# Altium footprint library 智能车专用库.PcbLib: 47 footprints (part 2 of 3)
Each footprint in its own frame and in the unit in brackets; x right, y up, seen from the top. Pads: shape width x height; smd on the part's side, far side on the other; paste and mask are expansions set on the pad; w line width, h text height; cw(c..) or ccw(c..) is an arc to the next point about the centre after c.
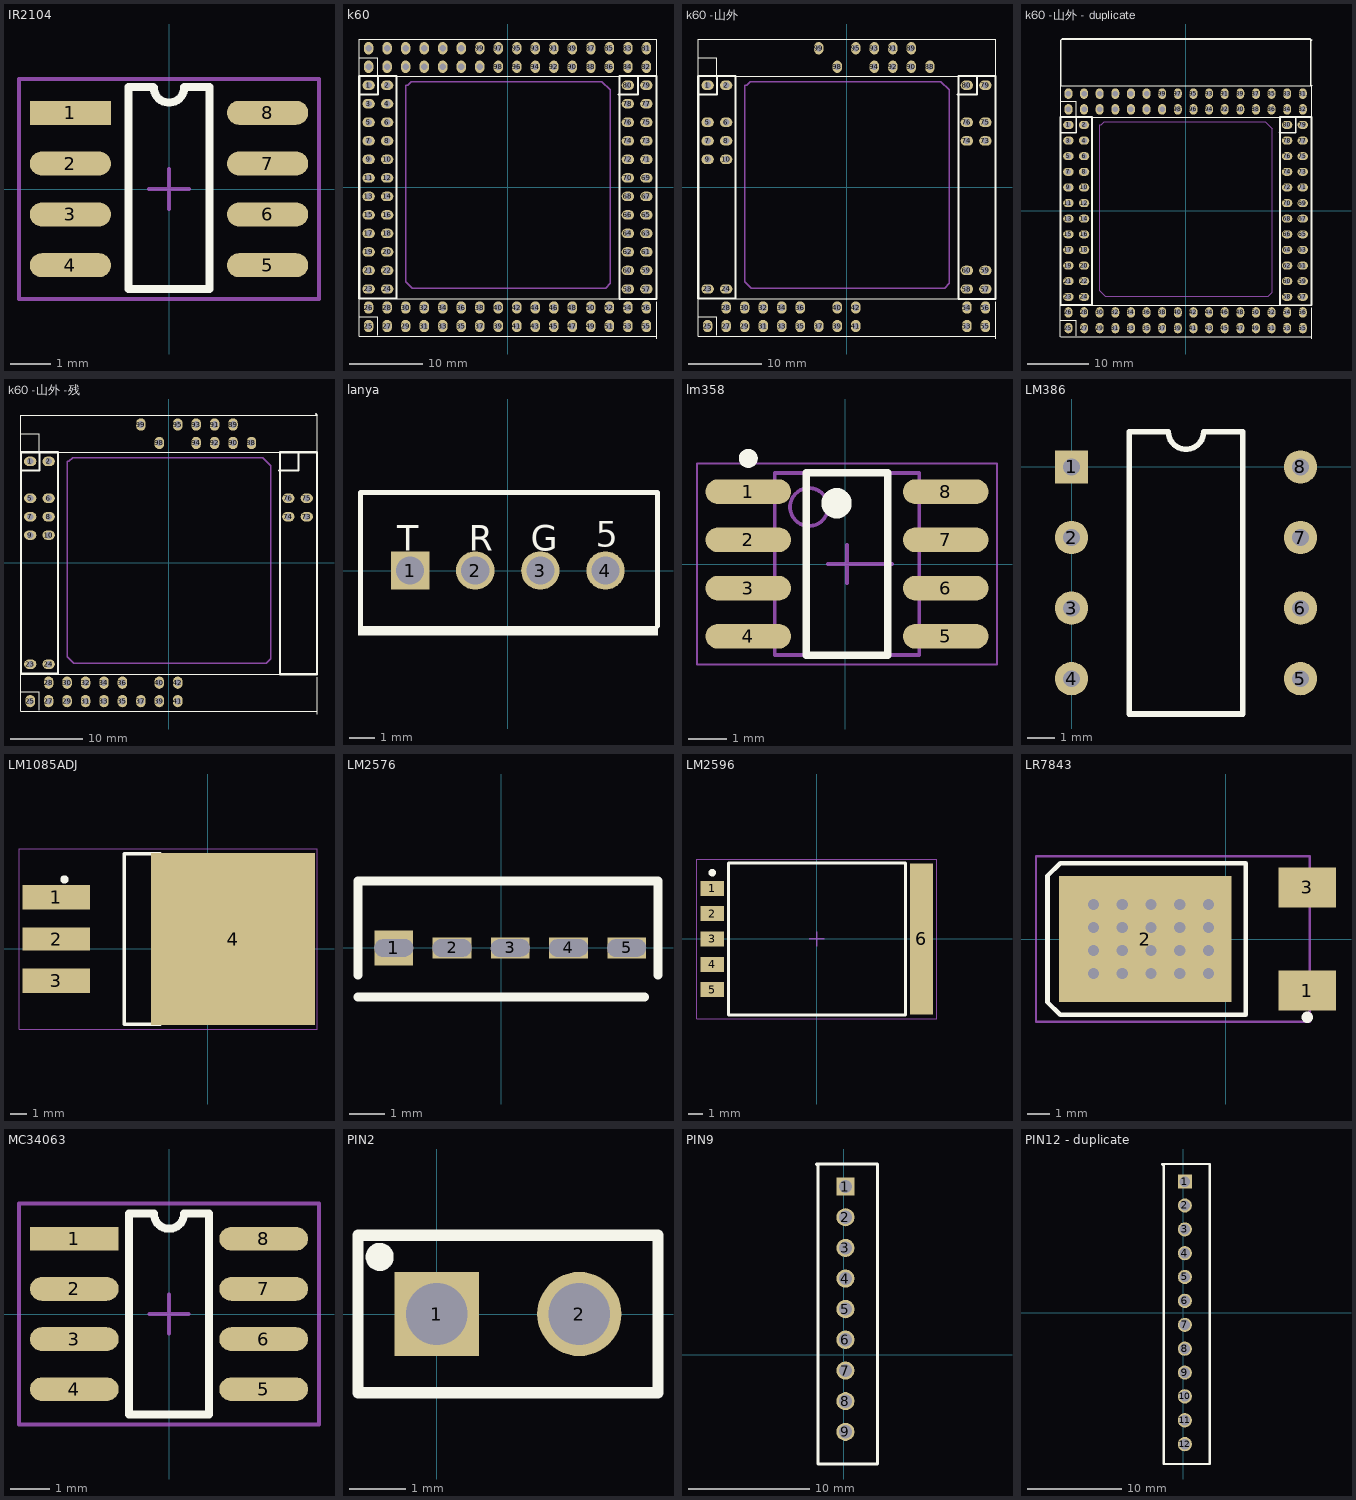
[diagram p1: the footprints below, top view; thin cyan lines are the x and y axes]

## IR2104 [mil]
pads (8):
  rect 80x23.62 smd: 1(-97,75)
  oval 80x23.62 smd: 2(-97,25) 3(-97,-25) 4(-97,-75) 5(97,-75) 6(97,-25) 7(97,25) 8(97,75)
Top Overlay:
  lines w7.87: -40,100.39 -40,-98.43 40,-98.43 40,100.39
  lines w8: -40,100.39 -15.55,100.39 ; -15,100 ccw(c0,100) 15,100 ; 15,100.39 40,100.39
Mechanical 15:
  lines w3.94: -19.68,0 19.68,0 ; 0,-19.68 0,19.68 ; -147.64,-108.27 147.64,-108.27 147.64,108.27 -147.64,108.27 -147.64,-108.27

## k60 [mm]
pads (112):
  oval 1.7x1.3 / inner round 1.524 / far side round 1.524 hole 0.9: 1(-19.05,13.97) 2(-16.51,13.97) 3(-19.05,11.43) 4(-16.51,11.43) 5(-19.05,8.89) 6(-16.51,8.89) 7(-19.05,6.35) 8(-16.51,6.35) 9(-19.05,3.81) 10(-16.51,3.81) 11(-19.05,1.27) 12(-16.51,1.27) 13(-19.05,-1.27) 14(-16.51,-1.27) 15(-19.05,-3.81) 16(-16.51,-3.81) 17(-19.05,-6.35) 18(-16.51,-6.35) 19(-19.05,-8.89) 20(-16.51,-8.89) 21(-19.05,-11.43) 22(-16.51,-11.43) 23(-19.05,-13.97) 24(-16.51,-13.97) 57(19.05,-13.97) 58(16.51,-13.97) 59(19.05,-11.43) 60(16.51,-11.43) 61(19.05,-8.89) 62(16.51,-8.89) 63(19.05,-6.35) 64(16.51,-6.35) 65(19.05,-3.81) 66(16.51,-3.81) 67(19.05,-1.27) 68(16.51,-1.27) 69(19.05,1.27) 70(16.51,1.27) 71(19.05,3.81) 72(16.51,3.81) 73(19.05,6.35) 74(16.51,6.35) 75(19.05,8.89) 76(16.51,8.89) 77(19.05,11.43) 78(16.51,11.43) 79(19.05,13.97) 80(16.51,13.97)
  oval 1.3x1.7 / inner round 1.524 / far side round 1.524 hole 0.9: 25(-19.05,-19.05) 26(-19.05,-16.51) 27(-16.51,-19.05) 28(-16.51,-16.51) 29(-13.97,-19.05) 30(-13.97,-16.51) 31(-11.43,-19.05) 32(-11.43,-16.51) 33(-8.89,-19.05) 34(-8.89,-16.51) 35(-6.35,-19.05) 36(-6.35,-16.51) 37(-3.81,-19.05) 38(-3.81,-16.51) 39(-1.27,-19.05) 40(-1.27,-16.51) 41(1.27,-19.05) 42(1.27,-16.51) 43(3.81,-19.05) 44(3.81,-16.51) 45(6.35,-19.05) 46(6.35,-16.51) 47(8.89,-19.05) 48(8.89,-16.51) 49(11.43,-19.05) 50(11.43,-16.51) 51(13.97,-19.05) 52(13.97,-16.51) 53(16.51,-19.05) 54(16.51,-16.51) 55(19.05,-19.05) 56(19.05,-16.51) 81(19.05,19.05) 82(19.05,16.51) 83(16.51,19.05) 84(16.51,16.51) 85(13.97,19.05) 86(13.97,16.51) 87(11.43,19.05) 88(11.43,16.51) 89(8.89,19.05) 90(8.89,16.51) 91(6.35,19.05) 92(6.35,16.51) 93(3.81,19.05) 94(3.81,16.51) 95(1.27,19.05) 96(1.27,16.51) 97(-1.27,19.05) 98(-1.27,16.51) 99(-3.81,19.05) 100(-3.81,16.51) 101(-6.35,19.05) 102(-6.35,16.51) 103(-8.89,19.05) 104(-8.89,16.51) 105(-11.43,19.05) 106(-11.43,16.51) 107(-13.97,19.05) 108(-13.97,16.51) 109(-16.51,19.05) 110(-16.51,16.51) 111(-19.05,19.05) 112(-19.05,16.51)
Top Overlay:
  lines w0.15: -20.362,-20.478 -20.362,-15.398 ; -20.323,-20.427 20.444,-20.427 ; -20.32,-17.78 -17.78,-17.78 -17.78,-20.32 ; -20.32,-15.336 20.447,-15.336 ; -20.32,17.78 -17.78,17.78 -17.78,15.24 ; 20.447,-16.211 20.498,-16.211 ; 20.447,-15.852 20.498,-15.852 ; 20.498,-20.828 20.498,-15.748 ; -20.32,15.24 20.447,15.24 20.498,15.24 20.498,20.32 20.447,20.32 -20.32,20.32 -20.32,15.24
  lines w0.305: -20.32,-15.271 -15.24,-15.271 ; -20.32,-15.24 -20.32,15.24 -15.24,15.24 -15.24,-15.24 ; -20.32,12.7 -17.78,12.7 -17.78,15.24 ; 15.24,12.7 17.78,12.7 ; 15.367,-15.344 20.447,-15.344 ; 15.367,-15.24 15.367,15.24 20.447,15.24 20.447,-15.24 ; 17.907,12.7 17.907,15.24
Mechanical 15:
  lines w0.2: -13.97,13.97 -13.716,13.97 ; -13.97,13.97 -13.716,13.97 ; -13.97,13.97 -13.97,-12.954 -13.081,-13.843 13.462,-13.843 14.097,-13.208 14.097,13.335 12.954,14.478 -13.208,14.478 -13.716,13.97

## k60 -山外 [mm]
pads (50):
  oval 1.7x1.3 / inner round 1.524 / far side round 1.524 hole 0.9: 1(-19.05,13.97) 2(-16.51,13.97) 5(-19.05,8.89) 6(-16.51,8.89) 7(-19.05,6.35) 8(-16.51,6.35) 9(-19.05,3.81) 10(-16.51,3.81) 23(-19.05,-13.97) 24(-16.51,-13.97) 57(19.05,-13.97) 58(16.51,-13.97) 59(19.05,-11.43) 60(16.51,-11.43) 73(19.05,6.35) 74(16.51,6.35) 75(19.05,8.89) 76(16.51,8.89) 79(19.05,13.97) 80(16.51,13.97)
  oval 1.3x1.7 / inner round 1.524 / far side round 1.524 hole 0.9: 25(-19.05,-19.05) 27(-16.51,-19.05) 28(-16.51,-16.51) 29(-13.97,-19.05) 30(-13.97,-16.51) 31(-11.43,-19.05) 32(-11.43,-16.51) 33(-8.89,-19.05) 34(-8.89,-16.51) 35(-6.35,-19.05) 36(-6.35,-16.51) 37(-3.81,-19.05) 39(-1.27,-19.05) 40(-1.27,-16.51) 41(1.27,-19.05) 42(1.27,-16.51) 53(16.51,-19.05) 54(16.51,-16.51) 55(19.05,-19.05) 56(19.05,-16.51) 88(11.43,16.51) 89(8.89,19.05) 90(8.89,16.51) 91(6.35,19.05) 92(6.35,16.51) 93(3.81,19.05) 94(3.81,16.51) 95(1.27,19.05) 98(-1.27,16.51) 99(-3.81,19.05)
Top Overlay:
  lines w0.15: -20.362,-20.478 -20.362,-15.398 ; -20.323,-20.427 20.444,-20.427 ; -20.32,-17.78 -17.78,-17.78 -17.78,-20.32 ; -20.32,-15.336 20.447,-15.336 ; -20.32,17.78 -17.78,17.78 -17.78,15.24 ; 20.447,-16.211 20.498,-16.211 ; 20.447,-15.852 20.498,-15.852 ; 20.498,-20.828 20.498,-15.748 ; -20.32,15.24 -20.32,20.32 20.447,20.32 20.498,20.32 20.498,15.24 20.447,15.24 -20.32,15.24
  lines w0.305: -20.32,-15.271 -15.24,-15.271 ; -20.32,-15.24 -20.32,15.24 -15.24,15.24 -15.24,-15.24 ; -20.32,12.7 -17.78,12.7 -17.78,15.24 ; 15.24,12.7 17.78,12.7 ; 15.367,-15.344 20.447,-15.344 ; 15.367,-15.24 15.367,15.24 20.447,15.24 20.447,-15.24 ; 17.907,12.7 17.907,15.24
Mechanical 15:
  lines w0.2: -13.97,13.97 -13.97,-12.954 -13.081,-13.843 13.462,-13.843 14.097,-13.208 14.097,13.335 12.954,14.478 -13.208,14.478 -13.716,13.97 ; -13.97,13.97 -13.716,13.97 ; -13.97,13.97 -13.716,13.97

## k60 -山外 - duplicate [mm]
pads (112):
  oval 1.7x1.3 / inner round 1.524 / far side round 1.524 hole 0.9: 1(-19.05,13.97) 2(-16.51,13.97) 3(-19.05,11.43) 4(-16.51,11.43) 5(-19.05,8.89) 6(-16.51,8.89) 7(-19.05,6.35) 8(-16.51,6.35) 9(-19.05,3.81) 10(-16.51,3.81) 11(-19.05,1.27) 12(-16.51,1.27) 13(-19.05,-1.27) 14(-16.51,-1.27) 15(-19.05,-3.81) 16(-16.51,-3.81) 17(-19.05,-6.35) 18(-16.51,-6.35) 19(-19.05,-8.89) 20(-16.51,-8.89) 21(-19.05,-11.43) 22(-16.51,-11.43) 23(-19.05,-13.97) 24(-16.51,-13.97) 57(19.05,-13.97) 58(16.51,-13.97) 59(19.05,-11.43) 60(16.51,-11.43) 61(19.05,-8.89) 62(16.51,-8.89) 63(19.05,-6.35) 64(16.51,-6.35) 65(19.05,-3.81) 66(16.51,-3.81) 67(19.05,-1.27) 68(16.51,-1.27) 69(19.05,1.27) 70(16.51,1.27) 71(19.05,3.81) 72(16.51,3.81) 73(19.05,6.35) 74(16.51,6.35) 75(19.05,8.89) 76(16.51,8.89) 77(19.05,11.43) 78(16.51,11.43) 79(19.05,13.97) 80(16.51,13.97)
  oval 1.3x1.7 / inner round 1.524 / far side round 1.524 hole 0.9: 25(-19.05,-19.05) 26(-19.05,-16.51) 27(-16.51,-19.05) 28(-16.51,-16.51) 29(-13.97,-19.05) 30(-13.97,-16.51) 31(-11.43,-19.05) 32(-11.43,-16.51) 33(-8.89,-19.05) 34(-8.89,-16.51) 35(-6.35,-19.05) 36(-6.35,-16.51) 37(-3.81,-19.05) 38(-3.81,-16.51) 39(-1.27,-19.05) 40(-1.27,-16.51) 41(1.27,-19.05) 42(1.27,-16.51) 43(3.81,-19.05) 44(3.81,-16.51) 45(6.35,-19.05) 46(6.35,-16.51) 47(8.89,-19.05) 48(8.89,-16.51) 49(11.43,-19.05) 50(11.43,-16.51) 51(13.97,-19.05) 52(13.97,-16.51) 53(16.51,-19.05) 54(16.51,-16.51) 55(19.05,-19.05) 56(19.05,-16.51) 81(19.05,19.05) 82(19.05,16.51) 83(16.51,19.05) 84(16.51,16.51) 85(13.97,19.05) 86(13.97,16.51) 87(11.43,19.05) 88(11.43,16.51) 89(8.89,19.05) 90(8.89,16.51) 91(6.35,19.05) 92(6.35,16.51) 93(3.81,19.05) 94(3.81,16.51) 95(1.27,19.05) 96(1.27,16.51) 97(-1.27,19.05) 98(-1.27,16.51) 99(-3.81,19.05) 100(-3.81,16.51) 101(-6.35,19.05) 102(-6.35,16.51) 103(-8.89,19.05) 104(-8.89,16.51) 105(-11.43,19.05) 106(-11.43,16.51) 107(-13.97,19.05) 108(-13.97,16.51) 109(-16.51,19.05) 110(-16.51,16.51) 111(-19.05,19.05) 112(-19.05,16.51)
Top Overlay:
  lines w0.15: -20.362,-20.478 -20.362,-15.398 ; -20.323,-20.427 20.444,-20.427 ; -20.32,-17.78 -17.78,-17.78 -17.78,-20.32 ; -20.32,-15.336 20.447,-15.336 ; -20.32,17.78 -17.78,17.78 -17.78,15.24 ; 20.447,-16.211 20.498,-16.211 ; 20.447,-15.852 20.498,-15.852 ; 20.498,-20.828 20.498,-15.748 ; -20.32,15.24 20.447,15.24 20.498,15.24 20.498,20.32 20.447,20.32 -20.32,20.32 -20.32,15.24
  lines w0.254: -20.32,20.32 -20.32,27.686 -20.066,27.94 20.295,27.94 ; 20.498,20.32 20.32,20.498 20.32,27.915 20.498,27.737
  lines w0.305: -20.32,-15.271 -15.24,-15.271 ; -20.32,-15.24 -20.32,15.24 -15.24,15.24 -15.24,-15.24 ; -20.32,12.7 -17.78,12.7 -17.78,15.24 ; 15.24,12.7 17.78,12.7 ; 15.367,-15.344 20.447,-15.344 ; 15.367,-15.24 15.367,15.24 20.447,15.24 20.447,-15.24 ; 17.907,12.7 17.907,15.24
Mechanical 15:
  lines w0.2: -13.97,13.97 -13.716,13.97 ; -13.97,13.97 -13.716,13.97 ; -13.97,13.97 -13.97,-12.954 -13.081,-13.843 13.462,-13.843 14.097,-13.208 14.097,13.335 12.954,14.478 -13.208,14.478 -13.716,13.97

## k60 -山外 -残 [mm]
pads (40):
  oval 1.7x1.3 / inner round 1.524 / far side round 1.524 hole 0.9: 1(-19.05,13.97) 2(-16.51,13.97) 5(-19.05,8.89) 6(-16.51,8.89) 7(-19.05,6.35) 8(-16.51,6.35) 9(-19.05,3.81) 10(-16.51,3.81) 23(-19.05,-13.97) 24(-16.51,-13.97) 73(19.05,6.35) 74(16.51,6.35) 75(19.05,8.89) 76(16.51,8.89)
  oval 1.3x1.7 / inner round 1.524 / far side round 1.524 hole 0.9: 25(-19.05,-19.05) 27(-16.51,-19.05) 28(-16.51,-16.51) 29(-13.97,-19.05) 30(-13.97,-16.51) 31(-11.43,-19.05) 32(-11.43,-16.51) 33(-8.89,-19.05) 34(-8.89,-16.51) 35(-6.35,-19.05) 36(-6.35,-16.51) 37(-3.81,-19.05) 39(-1.27,-19.05) 40(-1.27,-16.51) 41(1.27,-19.05) 42(1.27,-16.51) 88(11.43,16.51) 89(8.89,19.05) 90(8.89,16.51) 91(6.35,19.05) 92(6.35,16.51) 93(3.81,19.05) 94(3.81,16.51) 95(1.27,19.05) 98(-1.27,16.51) 99(-3.81,19.05)
Top Overlay:
  lines w0.15: -20.362,-20.478 -20.362,-15.398 ; -20.323,-20.427 20.444,-20.427 ; -20.32,-17.78 -17.78,-17.78 -17.78,-20.32 ; -20.32,-15.336 20.447,-15.336 ; -20.32,17.78 -17.78,17.78 -17.78,15.24 ; 20.447,-16.211 20.498,-16.211 ; 20.447,-15.852 20.498,-15.852 ; 20.498,-20.828 20.498,-15.748 ; -20.32,15.24 20.447,15.24 20.498,15.24 20.498,20.32 20.447,20.32 -20.32,20.32 -20.32,15.24
  lines w0.254: 20.32,20.498 20.498,20.32
  lines w0.305: -20.32,-15.271 -15.24,-15.271 ; -20.32,-15.24 -20.32,15.24 -15.24,15.24 -15.24,-15.24 ; -20.32,12.7 -17.78,12.7 -17.78,15.24 ; 15.24,12.7 17.78,12.7 ; 15.367,-15.344 20.447,-15.344 ; 15.367,-15.24 15.367,15.24 20.447,15.24 20.447,-15.24 ; 17.907,12.7 17.907,15.24
Mechanical 15:
  lines w0.2: -13.97,13.97 -13.716,13.97 ; -13.97,13.97 -13.716,13.97 ; -13.97,13.97 -13.97,-12.954 -13.081,-13.843 13.462,-13.843 14.097,-13.208 14.097,13.335 12.954,14.478 -13.208,14.478 -13.716,13.97

## lanya [mm] "SIP; 4 Leads; Body 11.8 x 5.7mm (typ); Pitch 2.54 mm"
height 10.6
pads (4):
  rect 1.5x1.5 hole 1.1: 1(-3.81,0)
  round 1.5 hole 1.1: 2(-1.27,0) 3(1.27,0) 4(3.81,0)
Top Overlay:
  rectangle: -5.842,-2.54 5.858,-2.16
  lines w0.2: -5.75,-2.159 -5.75,3.048 5.75,3.048 ; 5.842,-2.159 5.842,3.048
  text "T" at -4.318,0.762 h0.99
  text "R" at -1.524,0.762 h0.99
  text "G" at 0.889,0.762 h0.99
  text "5" at 3.429,0.925 h0.99

## lm358 [mm]
pads (8):
  oval 2.25x0.65 smd: 1(-2.549,1.905) 2(-2.549,0.635) 3(-2.549,-0.635) 4(-2.549,-1.905) 5(2.651,-1.905) 6(2.651,-0.635) 7(2.651,0.635) 8(2.651,1.905)
Top Overlay:
  circle w0.25: c-2.549,2.78 r0.125
  circle w0.4: c-0.224,1.6 r0.2
  lines w0.2: -1.024,-2.4 -1.024,2.4 1.126,2.4 1.126,-2.4 -1.024,-2.4
Mechanical 13:
  circle w0.1: c-0.949,1.5 r0.5
  lines w0.1: -1.849,-2.4 -1.849,2.4 1.951,2.4 1.951,-2.4 -1.849,-2.4
Mechanical 15:
  lines w0.05: -3.899,-2.65 -3.899,2.65 4.001,2.65 4.001,-2.65 -3.899,-2.65
  lines w0.1: -0.449,0 1.245,0 ; 0.051,-0.5 0.051,0.5
3D body: height 1.62, standoff 0.18, extent -1.849,-2.451 1.951,2.349

## LM386 [mm]
pads (8):
  rect 1.2x1.2 hole 0.6: 1(0,0)
  round 1.2 hole 0.6: 2(0,-2.54) 3(0,-5.08) 4(0,-7.62) 5(8.24,-7.62) 6(8.24,-5.08) 7(8.24,-2.54) 8(8.24,0)
Top Overlay:
  lines w0.2: 2.085,-8.89 6.155,-8.89 6.155,1.27 4.755,1.27 cw(c4.12,1.27) 3.485,1.27 2.085,1.27 2.085,-8.89

## LM1085ADJ [mm]
pads (4):
  rect 4.1x1.5 smd: 1(-9.262,3.15) 3(-9.262,-1.93)
  rect 4.1x1.4 smd: 2(-9.262,0.61)
  rect 10x10.5 smd: 4(1.538,0.61)
Top Overlay:
  circle w0.25: c-8.762,4.25 r0.125
  lines w0.2: -2.912,-4.59 -5.112,-4.59 -5.112,5.81 -2.912,5.81
Mechanical 13:
  lines w0.1: -5.112,-4.59 -5.112,5.81 3.778,5.81 3.778,-4.59 -5.112,-4.59
Mechanical 15:
  lines w0.05: -11.537,-4.89 -11.537,6.11 6.68,6.11 6.68,-4.89 -11.537,-4.89
  lines w0.1: -2.862,0.61 -1.862,0.61 ; -2.362,0.11 -2.362,1.11
3D body: height 4.69, standoff 0, extent -5.112,-4.59 3.778,5.81

## LM2576 [mm] "2.54mmX5"
pads (5):
  rect 1.1x1 hole 0.5 slot 1.1 at 0.5 deg: 1(-3.048,0)
  rect 1.1x0.6 hole 0.5 slot 1.1 at 0.2 deg: 2(-1.397,0)
  rect 1.1x0.6 hole 0.5 slot 1.1 at 1 deg: 3(0.254,0)
  rect 1.1x0.6 hole 0.5 slot 1.1 at 0.5 deg: 4(1.905,0) 5(3.556,0)
Top Overlay:
  lines w0.254: -4.064,-1.397 4.064,-1.397 ; -4.064,-0.762 -4.064,1.905 4.445,1.905 4.445,-0.762

## LM2596 [mm] "SOT223, 6-Leads, Body 10.02x14.20mm (avg), Pitch 1.70mm, IPC Medium Density"
height 4.58
pads (6):
  rect 1.55x1 smd: 1(-7.025,3.404) 2(-7.025,1.702) 3(-7.025,0) 4(-7.025,-1.702) 5(-7.025,-3.404)
  rect 1.55x10.15 smd: 6(7.025,0)
Top Overlay:
  circle w0.25: c-7.025,4.454 r0.125
  lines w0.2: -5.95,-5.1 5.95,-5.1 5.95,5.1 -5.95,5.1 -5.95,-5.1
Mechanical 13:
  lines w0.1: -4.675,-5.12 4.675,-5.12 ; -4.675,5.12 4.675,5.12
Mechanical 15:
  lines w0.05: -8.05,-5.35 8.05,-5.35 8.05,5.35 -8.05,5.35 -8.05,-5.35
  lines w0.1: -0.5,0 0.5,0 ; 0,-0.5 0,0.5

## LR7843 [mm]
pads (3):
  rect 2.54x1.778 smd: 1(3.6,-2.28) 3(3.6,2.28)
  rect 7.6x5.55 smd: 2(-3.556,0)
via -5.842,1.524 diameter 0.8 hole 0.5
via -5.842,0.508 diameter 0.8 hole 0.5
via -5.842,-0.508 diameter 0.8 hole 0.5
via -4.572,1.524 diameter 0.8 hole 0.5
via -4.572,0.508 diameter 0.8 hole 0.5
via -4.572,-0.508 diameter 0.8 hole 0.5
via -4.572,-1.524 diameter 0.8 hole 0.5
via -3.302,1.524 diameter 0.8 hole 0.5
via -3.302,0.508 diameter 0.8 hole 0.5
via -3.302,-0.508 diameter 0.8 hole 0.5
via -2.032,1.524 diameter 0.8 hole 0.5
via -2.032,0.508 diameter 0.8 hole 0.5
via -2.032,-1.524 diameter 0.8 hole 0.5
via -2.032,-0.508 diameter 0.8 hole 0.5
via -3.302,-1.524 diameter 0.8 hole 0.5
via -5.842,-1.524 diameter 0.8 hole 0.5
via -0.762,0.508 diameter 0.8 hole 0.5
via -0.762,1.524 diameter 0.8 hole 0.5
via -0.762,-0.508 diameter 0.8 hole 0.5
via -0.762,-1.524 diameter 0.8 hole 0.5
Top Overlay:
  circle w0.25: c3.6,-3.455 r0.125
  lines w0.2: -7.874,-2.794 -7.318,-3.35 0.889,-3.35 0.889,3.35 -7.318,3.35 -7.874,2.794 -7.874,-2.794
Mechanical 15:
  lines w0.1: -1.85,0 -0.85,0 ; -1.35,-0.5 -1.35,0.5 ; -8.382,-3.65 3.705,-3.65 3.705,3.65 -8.382,3.65 -8.382,-3.65

## MC34063 [mm]
pads (8):
  rect 2.25x0.6 smd: 1(-2.4,1.905)
  oval 2.25x0.6 smd: 2(-2.4,0.635) 3(-2.4,-0.635) 4(-2.4,-1.905) 5(2.4,-1.905) 6(2.4,-0.635) 7(2.4,0.635) 8(2.4,1.905)
Top Overlay:
  lines w0.203: -0.395,2.55 -1.016,2.55 -1.016,-2.55 1.016,-2.55 1.016,2.55 0.381,2.55 ; -0.381,2.54 ccw(c0,2.54) 0.381,2.54
Mechanical 15:
  lines w0.1: -0.5,0 0.5,0 ; 0,-0.5 0,0.5 ; -3.8,-2.8 3.8,-2.8 3.8,2.8 -3.8,2.8 -3.8,-2.8

## PIN2 [mm] "Photosensitive Diode; 2 Leads"
pads (2):
  rect 1.5x1.5 hole 1.1: 1(0,0)
  round 1.5 hole 1.1: 2(2.54,0)
Top Overlay:
  circle w0.25: c-1.014,1.016 r0.125
  lines w0.2: -1.4,-1.4 -1.4,1.4 3.94,1.4 3.94,-1.4 -1.4,-1.4

## PIN9 [mm] "2.54mmX5"
pads (9):
  rect 1.5x1.5 hole 1.1: 1(0.152,13.951)
  round 1.5 hole 1.1: 2(0.152,11.41) 3(0.152,8.869) 4(0.152,6.328) 7(0.152,-1.295) 8(0.152,-3.836) 9(0.152,-6.378)
  oval 1.5x1.524 hole 1.1: 5(0.152,3.799) 6(0.152,1.258)
Top Overlay:
  lines w0.254: -2.261,15.824 2.819,15.824 2.819,-9.042 -2.108,-9.042 -2.108,15.672 -2.261,15.824

## PIN12 - duplicate [mm] "2.54mmX5"
pads (12):
  rect 1.5x1.5 hole 1.1: 1(0.152,13.951)
  round 1.5 hole 1.1: 2(0.152,11.41) 3(0.152,8.869) 4(0.152,6.328) 7(0.152,-1.295) 8(0.152,-3.836) 9(0.152,-6.378)
  oval 1.5x1.524 hole 1.1: 5(0.152,3.799) 6(0.152,1.258) 10(0.152,-8.907) 11(0.152,-11.448) 12(0.152,-13.989)
Top Overlay:
  lines w0.254: -2.261,15.824 -2.108,15.672 -2.108,-16.104 2.819,-16.104 2.819,15.824 -2.261,15.824